# Altium footprint library Project_Lib.PcbLib: 2 footprints
Each footprint in its own frame and in the unit in brackets; x right, y up, seen from the top. Pads: shape width x height; smd on the part's side, far side on the other; paste and mask are expansions set on the pad; w line width, h text height; cw(c..) or ccw(c..) is an arc to the next point about the centre after c.
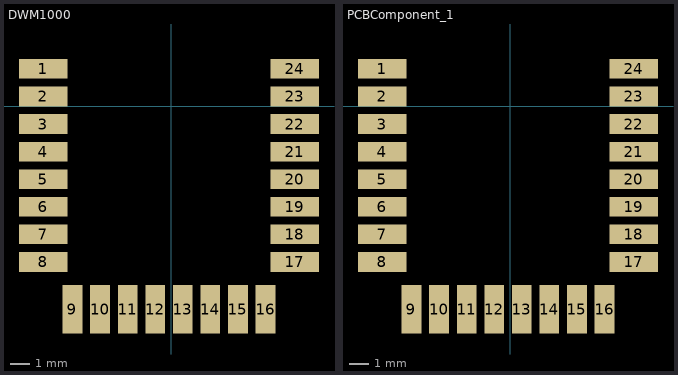
[diagram p0: the footprints below, top view; thin cyan lines are the x and y axes]

## DWM1000 [mm]
pads (24):
  rect 2.45x1 smd: 1(-6.494,1.886) 2(-6.494,0.486) 3(-6.494,-0.914) 4(-6.494,-2.314) 5(-6.494,-3.714) 6(-6.494,-5.114) 7(-6.494,-6.514) 8(-6.494,-7.914) 17(6.286,-7.914) 18(6.286,-6.514) 19(6.286,-5.114) 20(6.286,-3.714) 21(6.286,-2.314) 22(6.286,-0.914) 23(6.286,0.486) 24(6.286,1.886)
  rect 1x2.45 smd: 9(-5.004,-10.311) 10(-3.604,-10.311) 11(-2.204,-10.311) 12(-0.804,-10.311) 13(0.596,-10.311) 14(1.996,-10.311) 15(3.396,-10.311) 16(4.796,-10.311)
3D body: height 0.25, standoff 0, extent 0,0 0,0
3D body: height 0.25, standoff 0, extent 23.17,22.55 23.17,22.55
3D body: height 0.25, standoff 0, extent 12.21,3.07 12.21,3.07
3D body: height 0.25, standoff 0, extent 4.5,17.4 4.5,17.4
3D body: height 0.25, standoff 0, extent 0,0 0,0
3D body: height 0.25, standoff 0, extent 19.3,21.6 19.3,21.6

## PCBComponent_1 [mm]
pads (24):
  rect 2.45x1 smd: 1(-6.494,1.886) 2(-6.494,0.486) 3(-6.494,-0.914) 4(-6.494,-2.314) 5(-6.494,-3.714) 6(-6.494,-5.114) 7(-6.494,-6.514) 8(-6.494,-7.914) 17(6.286,-7.914) 18(6.286,-6.514) 19(6.286,-5.114) 20(6.286,-3.714) 21(6.286,-2.314) 22(6.286,-0.914) 23(6.286,0.486) 24(6.286,1.886)
  rect 1x2.45 smd: 9(-5.004,-10.311) 10(-3.604,-10.311) 11(-2.204,-10.311) 12(-0.804,-10.311) 13(0.596,-10.311) 14(1.996,-10.311) 15(3.396,-10.311) 16(4.796,-10.311)